# EAGLE library part AEM10941 (library REF-IN-BLE-NS 4-0)
AEM10941  Energy Harvesting Power Management IC
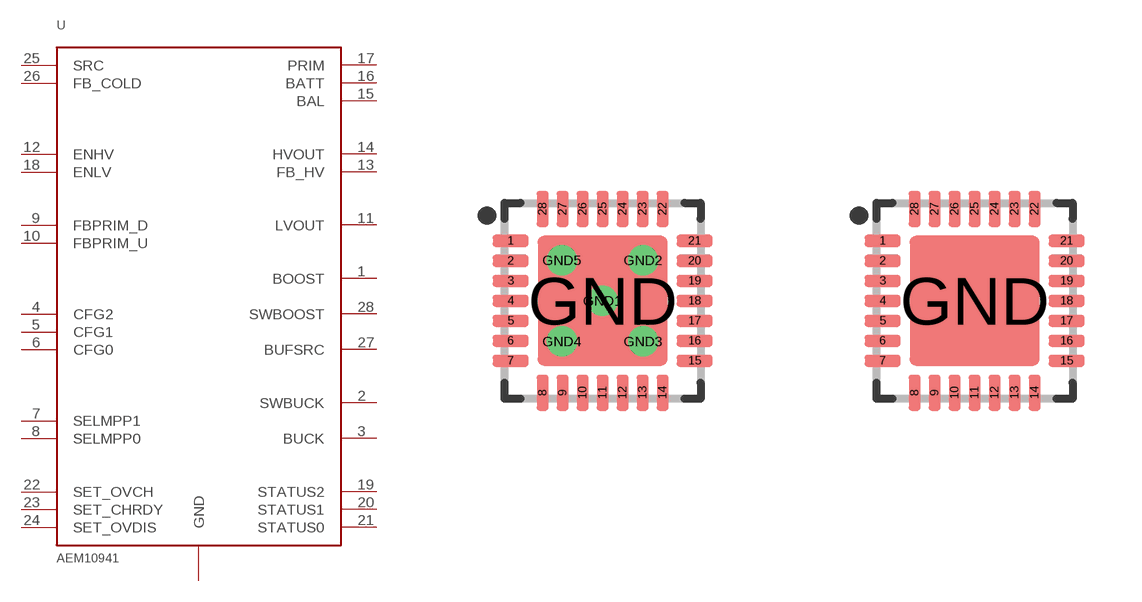
[diagram p0: symbol with the pads of QFN28_5X5_05PITCH; footprints QFN28_5X5_05PITCH, QFN28_5X5_05P_NO_VIAS]

Designator prefix U

## AEM10941  [QFN28_5X5_05PITCH]
1  BOOST
2  SWBUCK
3  BUCK
4  CFG2  in
5  CFG1  in
6  CFG0  in
7  SELMPP1  in
8  SELMPP0  in
9  FBPRIM_D
10  FBPRIM_U
11  LVOUT  out
12  ENHV  in
13  FB_HV  in
14  HVOUT  out
15  BAL
16  BATT
17  PRIM
18  ENLV  in
19  STATUS2  out
20  STATUS1  out
21  STATUS0  out
22  SET_OVCH
23  SET_CHRDY
24  SET_OVDIS
25  SRC  in
26  FB_COLD
27  BUFSRC
28  SWBOOST
GND  GND  pwr
GND1  GND  pwr
GND2  GND  pwr
GND3  GND  pwr
GND4  GND  pwr
GND5  GND  pwr

## AEM10941NV  [QFN28_5X5_05P_NO_VIAS]
1  BOOST
2  SWBUCK
3  BUCK
4  CFG2  in
5  CFG1  in
6  CFG0  in
7  SELMPP1  in
8  SELMPP0  in
9  FBPRIM_D
10  FBPRIM_U
11  LVOUT  out
12  ENHV  in
13  FB_HV  in
14  HVOUT  out
15  BAL
16  BATT
17  PRIM
18  ENLV  in
19  STATUS2  out
20  STATUS1  out
21  STATUS0  out
22  SET_OVCH
23  SET_CHRDY
24  SET_OVDIS
25  SRC  in
26  FB_COLD
27  BUFSRC
28  SWBOOST
GND  GND  pwr

## Footprint QFN28_5X5_05PITCH (pad centres in mm)
QFN28-5x5-0.50
smd 0.9 x 0.3: 1 -2.3,1.5; 2 -2.3,1; 3 -2.3,0.5; 4 -2.3,0; 5 -2.3,-0.5; 6 -2.3,-1; 7 -2.3,-1.5; 15 2.3,-1.5; 16 2.3,-1; 17 2.3,-0.5; 18 2.3,0; 19 2.3,0.5; 20 2.3,1; 21 2.3,1.5
smd 0.3 x 0.9: 8 -1.5,-2.3; 9 -1,-2.3; 10 -0.5,-2.3; 11 0,-2.3; 12 0.5,-2.3; 13 1,-2.3; 14 1.5,-2.3; 22 1.5,2.3; 23 1,2.3; 24 0.5,2.3; 25 0,2.3; 26 -0.5,2.3; 27 -1,2.3; 28 -1.5,2.3
smd 3.25 x 3.25: GND 0,0
drill 0.25: GND1 0,0; GND2 1.016,1.016; GND3 1.016,-1.016; GND4 -1.016,-1.016; GND5 -1.016,1.016

## Footprint QFN28_5X5_05P_NO_VIAS (pad centres in mm)
QFN28-5x5-0.50 - No Vias in Thermal Pad
smd 0.9 x 0.3: 1 -2.3,1.5; 2 -2.3,1; 3 -2.3,0.5; 4 -2.3,0; 5 -2.3,-0.5; 6 -2.3,-1; 7 -2.3,-1.5; 15 2.3,-1.5; 16 2.3,-1; 17 2.3,-0.5; 18 2.3,0; 19 2.3,0.5; 20 2.3,1; 21 2.3,1.5
smd 0.3 x 0.9: 8 -1.5,-2.3; 9 -1,-2.3; 10 -0.5,-2.3; 11 0,-2.3; 12 0.5,-2.3; 13 1,-2.3; 14 1.5,-2.3; 22 1.5,2.3; 23 1,2.3; 24 0.5,2.3; 25 0,2.3; 26 -0.5,2.3; 27 -1,2.3; 28 -1.5,2.3
smd 3.25 x 3.25: GND 0,0